# Altium footprint library SMD Passive.PcbLib: 8 footprints
Each footprint in its own frame and in the unit in brackets; x right, y up, seen from the top. Pads: shape width x height; smd on the part's side, far side on the other; paste and mask are expansions set on the pad; w line width, h text height; cw(c..) or ccw(c..) is an arc to the next point about the centre after c.
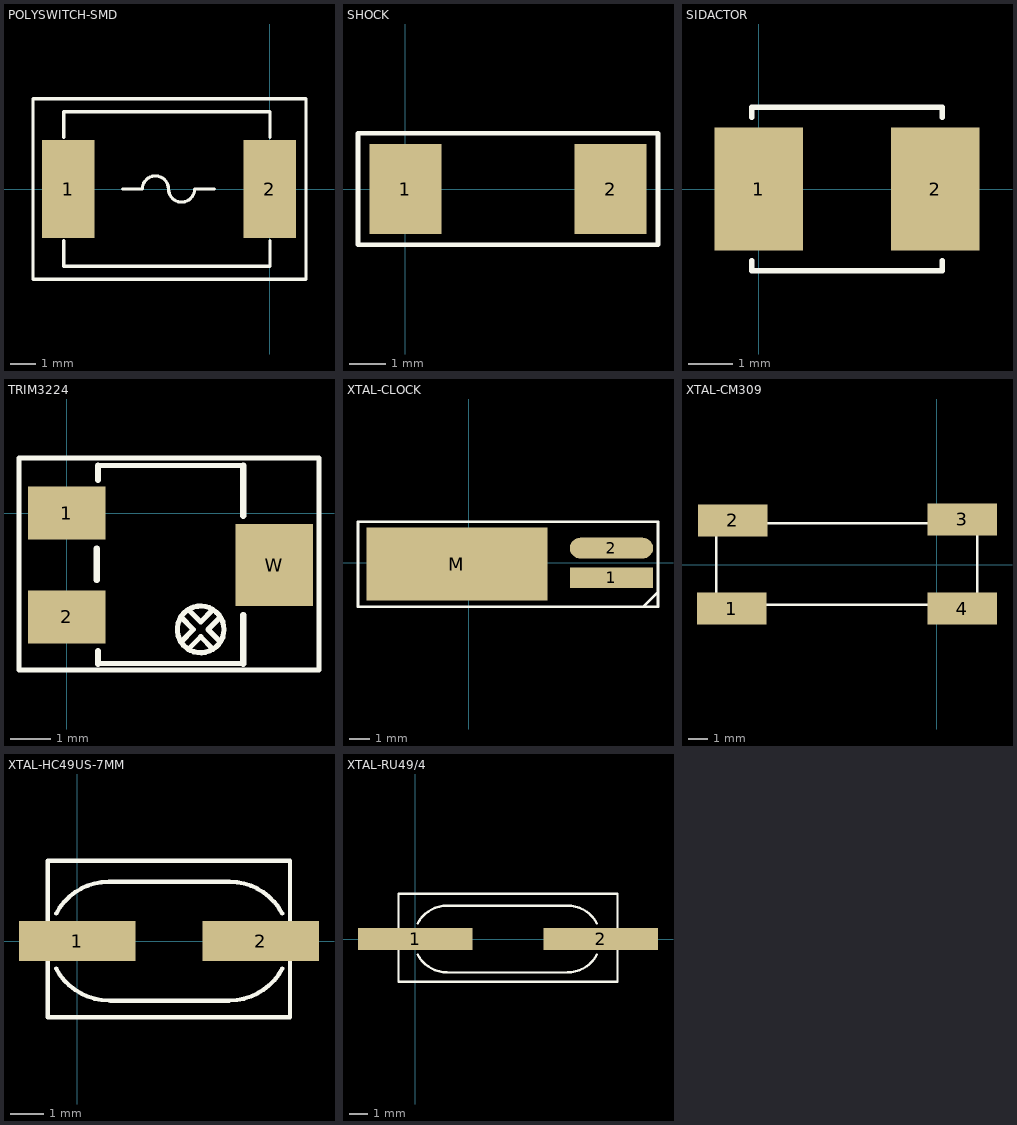
[diagram p0: the footprints below, top view; thin cyan lines are the x and y axes]

## POLYSWITCH-SMD [mil]
pads (2):
  rect 80x150 smd: 1(-308.42,0) 2(0,0)
Top Overlay:
  lines w5: -314.96,-78.74 -314.96,-118.11 0,-118.11 0,-78.74 ; -314.96,78.74 -314.96,118.11 0,118.11 0,78.74 ; -225,0 -195,0 cw(c-175,0) -155,0 ccw(c-135,0) -115,0 -85,0 ; -362.2,-137.8 -362.2,0 -362.2,137.8 -354.33,137.8 48.78,137.8 55.12,137.8 55.12,0 55.12,-137.8 48.78,-137.8 -354.33,-137.8 -362.2,-137.8

## SHOCK [mm]
pads (2):
  rect 2x2.5 smd: 1(0,0) 2(5.715,0)
Top Overlay:
  lines w0.127: -1.321,-1.549 7.036,-1.549 7.036,1.549 -1.321,1.549 -1.321,-1.549

## SIDACTOR [mil]
pads (2):
  rect 79x110 smd: 1(0,0) 2(158,0)
Top Overlay:
  lines w5: -6,-63.98 -6,-73 164,-73 164,-64.02 ; -6,64.02 -6,73 164,73 164,63.98

## TRIM3224 [mm]
pads (3):
  rect 1.9x1.3 smd: 1(0,0) 2(0,-2.54)
  rect 1.9x2 smd: W(5.08,-1.27)
Top Overlay:
  circle w0.127: c3.277,-2.845 r0.571
  lines w0.127: 0.762,-3.683 4.318,-3.683 ; 0.762,1.168 4.318,1.168 ; 2.792,-3.15 3.097,-2.845 2.792,-2.539 ; 2.971,-3.33 3.277,-3.024 3.582,-3.33 ; 2.971,-2.36 3.277,-2.665 3.582,-2.36 ; 3.762,-3.15 3.456,-2.845 3.762,-2.539 ; -1.168,-3.835 6.172,-3.835 6.172,1.346 -1.168,1.346 -1.168,-3.835
  lines w0.152: 0.737,-1.638 0.737,-0.864 ; 0.762,-3.683 0.762,-3.378 ; 0.762,0.813 0.762,1.168 ; 4.318,-3.683 4.318,-2.489 ; 4.318,-0.064 4.318,1.168
3D body: height 4.72, standoff 4.7, extent 2.718,-2.921 3.861,-2.769
3D body: height 4.72, standoff 4.7, extent 3.2,-3.429 3.353,-2.286
3D body: height 4.7, standoff 4.57, extent 2.642,-3.48 3.907,-2.212
3D body: height 0.25, standoff 0, extent 0.381,-3.048 0.94,-2.032
3D body: height 0.25, standoff 0, extent 0.381,-0.508 0.94,0.508
3D body: height 0.25, standoff 0, extent 4.14,-2.108 4.699,-0.432
3D body: height 4.57, standoff 0.08, extent 0.762,-3.683 4.318,1.168

## XTAL-CLOCK [mm]
pads (3):
  rect 4x1 smd: 1(6.858,-0.711)
  oval 4x1 smd: 2(6.858,0.711)
  rect 8.7x3.5 smd: M(-0.559,-0.051)
Top Overlay:
  lines w0.127: 8.382,-2.108 9.093,-1.397 ; -5.309,-2.108 9.093,-2.108 9.093,1.981 -5.309,1.981 -5.309,-2.108

## XTAL-CM309 [mm]
pads (4):
  rect 3.5x1.6 smd: 1(-10.3,-2.2) 2(-10.25,2.225) 3(1.275,2.275) 4(1.275,-2.2)
Top Overlay:
  lines w0.127: -11.075,-2 2,-2 2.025,-2.025 2.025,2.075 -11.05,2.075 -11.075,2.1 -11.075,-2

## XTAL-HC49US-7MM [mm]
pads (2):
  rect 3.5x1.2 smd: 1(0,0) 2(5.499,0)
Top Overlay:
  lines w0.127: -0.635,-0.825 ccw(c0.94,0) 0.94,-1.778 ; -0.635,0.825 cw(c0.94,0) 0.94,1.778 ; 0.965,1.778 4.572,1.778 cw(c4.572,0) 6.147,0.825 ; 0.991,-1.787 4.547,-1.787 ; 4.572,-1.778 ccw(c4.572,0) 6.147,-0.825 ; -0.889,-2.286 6.375,-2.286 6.375,2.413 -0.889,2.413 -0.889,-2.286
3D body: height 1.02, standoff 0, extent 4.547,1.143 6.35,2.413
3D body: height 0.25, standoff 0, extent 5.753,-0.419 7.074,0.394
3D body: height 1.02, standoff 0, extent 4.559,-2.273 6.363,-1.003
3D body: height 1.02, standoff 0, extent -0.902,-2.273 0.902,-1.003
3D body: height 3.05, standoff 0, extent -0.72,-1.787 6.21,1.79
3D body: height 0.25, standoff 0, extent -1.613,-0.419 -0.292,0.394
3D body: height 1.02, standoff 0, extent -0.889,1.143 0.914,2.413
3D body: height 0.51, standoff 0, extent -0.902,-2.273 6.35,2.413

## XTAL-RU49/4 [mil]
pads (2):
  rect 240x47.24 smd: 1(0,0) 2(390,0)
Top Overlay:
  lines w5: 4.99,-32.48 ccw(c67,0) 67,-70 ; 4.99,32.48 cw(c67,0) 67,70 ; 65,-70.36 320.36,-70.36 ; 65,70 320,70 cw(c320,0) 382.01,32.48 ; 320,-70 ccw(c320,0) 382.01,-32.48 ; -35,-90 -35,95 425,95 425,-90 -35,-90
3D body: height 20, standoff 0, extent -35.5,-89.5 425,95
3D body: height 40, standoff 0, extent -35,45 36,95
3D body: height 10, standoff 0, extent -78.5,-16.5 -26.5,15.5
3D body: height 120, standoff 0, extent -3.34,-70.34 389.34,70.34
3D body: height 40, standoff 0, extent -35.5,-89.5 35.5,-39.5
3D body: height 40, standoff 0, extent 354.5,-89.5 425.5,-39.5
3D body: height 10, standoff 0, extent 416.5,-16.5 468.5,15.5
3D body: height 40, standoff 0, extent 354,45 425,95